# EAGLE library part SCART_CABLE (library scart)
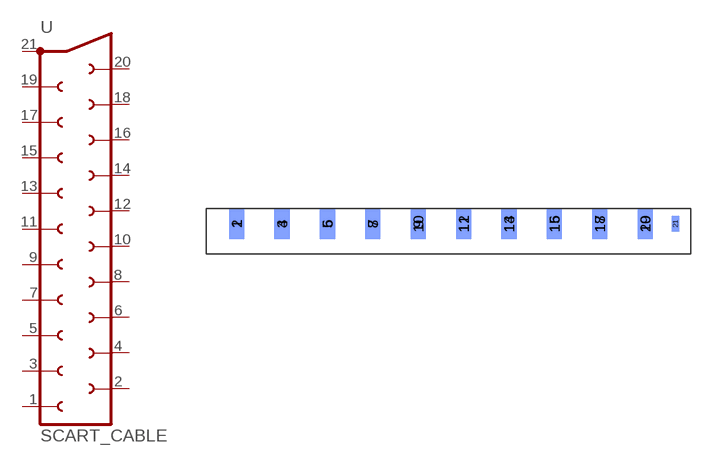
[diagram p0: symbol with the pads of SCART_CABLE; footprint SCART_CABLE]

Designator prefix -

## SCART_CABLE  [SCART_CABLE]
1  1  pas
2  2  pas
3  3  pas
4  4  pas
5  5  pas
6  6  pas
7  7  pas
8  8  pas
9  9  pas
10  10  pas
11  11  pas
12  12  pas
13  13  pas
14  14  pas
15  15  pas
16  16  pas
17  17  pas
18  18  pas
19  19  pas
20  20  pas
21  21  pas

## Footprint SCART_CABLE (pad centres in mm)
smd 1.27 x 2.54: 1 -17.78,2.54; 3 -13.97,2.54; 5 -10.16,2.54; 7 -6.35,2.54; 9 -2.54,2.54; 11 1.27,2.54; 13 5.08,2.54; 15 8.89,2.54; 17 12.7,2.54; 19 16.51,2.54
smd 1.27 x 2.54 bottom: 2 -17.78,2.54; 4 -13.97,2.54; 6 -10.16,2.54; 8 -6.35,2.54; 10 -2.54,2.54; 12 1.27,2.54; 14 5.08,2.54; 16 8.89,2.54; 18 12.7,2.54; 20 16.51,2.54
smd 0.635 x 1.27 bottom: 21 19.05,2.54